# EAGLE library part 503480-2400 (library 503480-2400)
FFC & FPC Connectors 0.5mm FPC RA SMT Dual Contact 24Ckt Source: Datasheet <https://componentsearchengine.com/Datasheets/1/503480-2400.pdf>
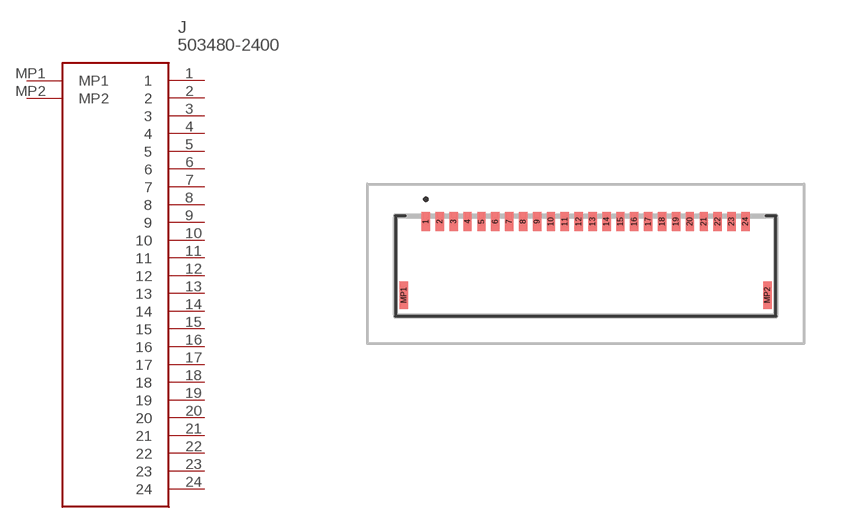
[diagram p0: symbol with the pads of 5034802400; footprint 5034802400]

Designator prefix J

## 503480-2400 (Description: FFC & FPC Connectors 0.5mm FPC RA SMT Dual Contact 24Ckt; Height: 1.87mm; Manufacturer_Name: Molex; Manufacturer_Part_Number: 503480-2400; Mouser_Part_Number: 538-503480-2400; Mouser_Price-Stock: https://www.mouser.co.uk/ProductDetail/Molex/503480-2400?qs=OAhjpuo3Vu7efIoxFh9AOw%3D%3D)  [5034802400]
1  1
2  2
3  3
4  4
5  5
6  6
7  7
8  8
9  9
10  10
11  11
12  12
13  13
14  14
15  15
16  16
17  17
18  18
19  19
20  20
21  21
22  22
23  23
24  24
MP1  MP1
MP2  MP2

## Footprint 5034802400 (pad centres in mm)
503480-2400-2
smd 0.3 x 0.7: 1 -5.75,1.525; 2 -5.25,1.525; 3 -4.75,1.525; 4 -4.25,1.525; 5 -3.75,1.525; 6 -3.25,1.525; 7 -2.75,1.525; 8 -2.25,1.525; 9 -1.75,1.525; 10 -1.25,1.525; 11 -0.75,1.525; 12 -0.25,1.525; 13 0.25,1.525; 14 0.75,1.525; 15 1.25,1.525; 16 1.75,1.525; 17 2.25,1.525; 18 2.75,1.525; 19 3.25,1.525; 20 3.75,1.525; 21 4.25,1.525; 22 4.75,1.525; 23 5.25,1.525; 24 5.75,1.525
smd 0.3 x 1: MP1 -6.54,-1.125; MP2 6.54,-1.125